# EAGLE library part TPS2561DRCT (library _mtvl.power)
DUAL CHANNEL PRECISION ADJUSTABLE CURRENT-LIMITED POWER SWITCHES
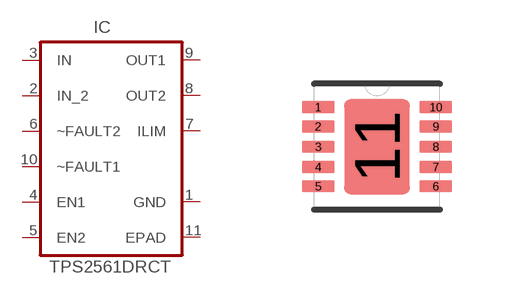
[diagram p2: symbol with the pads of SON50P300X300X100-11N; footprint SON50P300X300X100-11N]

Designator prefix IC

## TPS2561DRCT (MPN: TPS2561DRCT; OC_FARNELL: 1815767; OC_NEWARK: 60R2438; PACKAGE: SON-10; SUPPLIER: Texas Instruments)  [SON50P300X300X100-11N]
1  GND  pas
2  IN_2  pwr
3  IN  pwr
4  EN1  in
5  EN2  in
6  ~FAULT2  out
7  ILIM  out
8  OUT2  out
9  OUT1  out
10  ~FAULT1  out
11  EPAD  pas

## Footprint SON50P300X300X100-11N (pad centres in mm)
smd 0.813 x 0.305: 1 -1.473,0.991; 2 -1.473,0.508; 3 -1.473,0; 4 -1.473,-0.508; 5 -1.473,-0.991; 6 1.473,-0.991; 7 1.473,-0.508; 8 1.473,0; 9 1.473,0.508; 10 1.473,0.991
smd 1.651 x 2.388: 11 0,0